# EAGLE library part LPC2364/66/68FBD (library nxp-arm)
MICROCONTROLLER Single-chip 16-bit/32-bit microcontrollers; up to 512 kB flash with ISP/IAP, Ethernet, USB 2.0, CAN, and 10-bit ADC/DAC
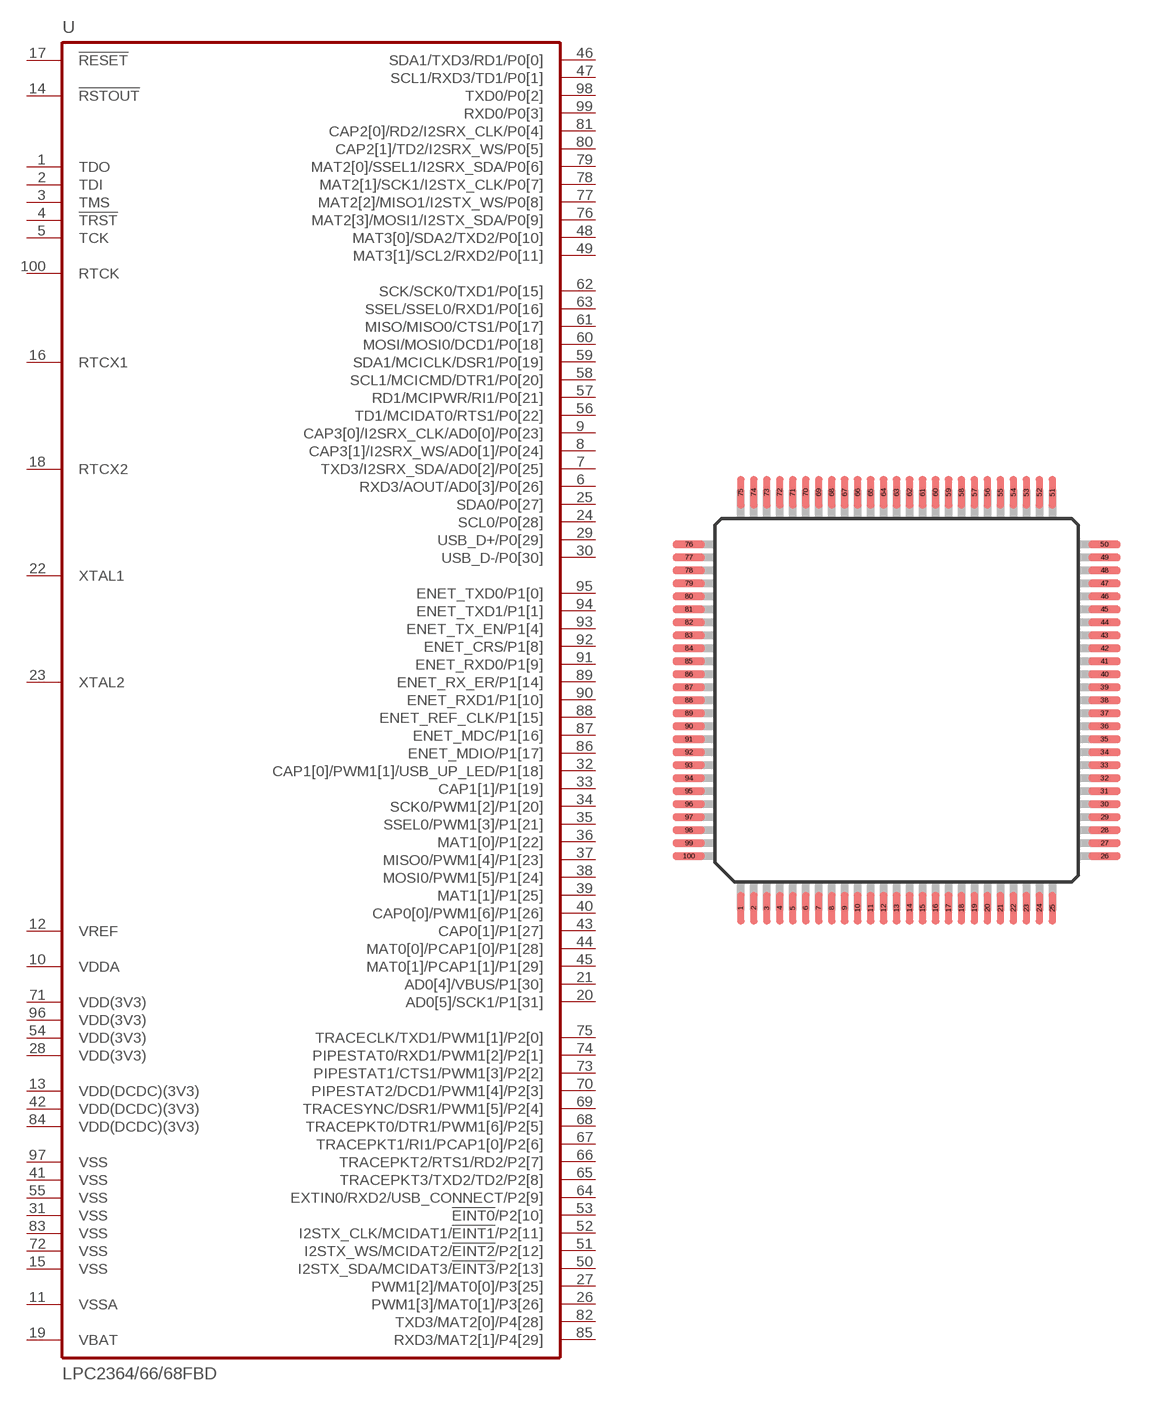
[diagram p13: symbol with the pads of LQFP100; footprint LQFP100]

Designator prefix U

## LPC2364/66/68FBD (P1I: o)  [LQFP100]
1  TDO
2  TDI
3  TMS
4  !TRST!
5  TCK
6  RXD3/AOUT/AD0[3]/P0[26]
7  TXD3/I2SRX_SDA/AD0[2]/P0[25]
8  CAP3[1]/I2SRX_WS/AD0[1]/P0[24]
9  CAP3[0]/I2SRX_CLK/AD0[0]/P0[23]
10  VDDA  pwr
11  VSSA  pwr
12  VREF  pwr
13  VDD(DCDC)(3V3)  pwr
14  !RSTOUT!  out
15  VSS  pwr
16  RTCX1
17  !RESET!  in
18  RTCX2
19  VBAT  pwr
20  AD0[5]/SCK1/P1[31]
21  AD0[4]/VBUS/P1[30]
22  XTAL1
23  XTAL2
24  SCL0/P0[28]
25  SDA0/P0[27]
26  PWM1[3]/MAT0[1]/P3[26]
27  PWM1[2]/MAT0[0]/P3[25]
28  VDD(3V3)  pwr
29  USB_D+/P0[29]
30  USB_D-/P0[30]
31  VSS  pwr
32  CAP1[0]/PWM1[1]/USB_UP_LED/P1[18]
33  CAP1[1]/P1[19]
34  SCK0/PWM1[2]/P1[20]
35  SSEL0/PWM1[3]/P1[21]
36  MAT1[0]/P1[22]
37  MISO0/PWM1[4]/P1[23]
38  MOSI0/PWM1[5]/P1[24]
39  MAT1[1]/P1[25]
40  CAP0[0]/PWM1[6]/P1[26]
41  VSS  pwr
42  VDD(DCDC)(3V3)  pwr
43  CAP0[1]/P1[27]
44  MAT0[0]/PCAP1[0]/P1[28]
45  MAT0[1]/PCAP1[1]/P1[29]
46  SDA1/TXD3/RD1/P0[0]
47  SCL1/RXD3/TD1/P0[1]
48  MAT3[0]/SDA2/TXD2/P0[10]
49  MAT3[1]/SCL2/RXD2/P0[11]
50  I2STX_SDA/MCIDAT3/!EINT3!/P2[13]
51  I2STX_WS/MCIDAT2/!EINT2!/P2[12]
52  I2STX_CLK/MCIDAT1/!EINT1!/P2[11]
53  !EINT0!/P2[10]
54  VDD(3V3)  pwr
55  VSS  pwr
56  TD1/MCIDAT0/RTS1/P0[22]
57  RD1/MCIPWR/RI1/P0[21]
58  SCL1/MCICMD/DTR1/P0[20]
59  SDA1/MCICLK/DSR1/P0[19]
60  MOSI/MOSI0/DCD1/P0[18]
61  MISO/MISO0/CTS1/P0[17]
62  SCK/SCK0/TXD1/P0[15]
63  SSEL/SSEL0/RXD1/P0[16]
64  EXTIN0/RXD2/USB_CONNECT/P2[9]
65  TRACEPKT3/TXD2/TD2/P2[8]
66  TRACEPKT2/RTS1/RD2/P2[7]
67  TRACEPKT1/RI1/PCAP1[0]/P2[6]
68  TRACEPKT0/DTR1/PWM1[6]/P2[5]
69  TRACESYNC/DSR1/PWM1[5]/P2[4]
70  PIPESTAT2/DCD1/PWM1[4]/P2[3]
71  VDD(3V3)  pwr
72  VSS  pwr
73  PIPESTAT1/CTS1/PWM1[3]/P2[2]
74  PIPESTAT0/RXD1/PWM1[2]/P2[1]
75  TRACECLK/TXD1/PWM1[1]/P2[0]
76  MAT2[3]/MOSI1/I2STX_SDA/P0[9]
77  MAT2[2]/MISO1/I2STX_WS/P0[8]
78  MAT2[1]/SCK1/I2STX_CLK/P0[7]
79  MAT2[0]/SSEL1/I2SRX_SDA/P0[6]
80  CAP2[1]/TD2/I2SRX_WS/P0[5]
81  CAP2[0]/RD2/I2SRX_CLK/P0[4]
82  TXD3/MAT2[0]/P4[28]
83  VSS  pwr
84  VDD(DCDC)(3V3)  pwr
85  RXD3/MAT2[1]/P4[29]
86  ENET_MDIO/P1[17]
87  ENET_MDC/P1[16]
88  ENET_REF_CLK/P1[15]
89  ENET_RX_ER/P1[14]
90  ENET_RXD1/P1[10]
91  ENET_RXD0/P1[9]
92  ENET_CRS/P1[8]
93  ENET_TX_EN/P1[4]
94  ENET_TXD1/P1[1]
95  ENET_TXD0/P1[0]
96  VDD(3V3)  pwr
97  VSS  pwr
98  TXD0/P0[2]
99  RXD0/P0[3]
100  RTCK

## Footprint LQFP100 (pad centres in mm)
TQ100 Package
smd 0.3 x 1.25: 1 -6,-8; 2 -5.5,-8; 3 -5,-8; 4 -4.5,-8; 5 -4,-8; 6 -3.5,-8; 7 -3,-8; 8 -2.5,-8; 9 -2,-8; 10 -1.5,-8; 11 -1,-8; 12 -0.5,-8; 13 0,-8; 14 0.5,-8; 15 1,-8; 16 1.5,-8; 17 2,-8; 18 2.5,-8; 19 3,-8; 20 3.5,-8; 21 4,-8; 22 4.5,-8; 23 5,-8; 24 5.5,-8; 25 6,-8; 51 6,8; 52 5.5,8; 53 5,8; 54 4.5,8; 55 4,8; 56 3.5,8; 57 3,8; 58 2.5,8; 59 2,8; 60 1.5,8; 61 1,8; 62 0.5,8; 63 0,8; 64 -0.5,8; 65 -1,8; 66 -1.5,8; 67 -2,8; 68 -2.5,8; 69 -3,8; 70 -3.5,8; 71 -4,8; 72 -4.5,8; 73 -5,8; 74 -5.5,8; 75 -6,8
smd 1.25 x 0.3: 26 8,-6; 27 8,-5.5; 28 8,-5; 29 8,-4.5; 30 8,-4; 31 8,-3.5; 32 8,-3; 33 8,-2.5; 34 8,-2; 35 8,-1.5; 36 8,-1; 37 8,-0.5; 38 8,0; 39 8,0.5; 40 8,1; 41 8,1.5; 42 8,2; 43 8,2.5; 44 8,3; 45 8,3.5; 46 8,4; 47 8,4.5; 48 8,5; 49 8,5.5; 50 8,6; 76 -8,6; 77 -8,5.5; 78 -8,5; 79 -8,4.5; 80 -8,4; 81 -8,3.5; 82 -8,3; 83 -8,2.5; 84 -8,2; 85 -8,1.5; 86 -8,1; 87 -8,0.5; 88 -8,0; 89 -8,-0.5; 90 -8,-1; 91 -8,-1.5; 92 -8,-2; 93 -8,-2.5; 94 -8,-3; 95 -8,-3.5; 96 -8,-4; 97 -8,-4.5; 98 -8,-5; 99 -8,-5.5; 100 -8,-6